# EAGLE library part TB6612FNG (library robots)
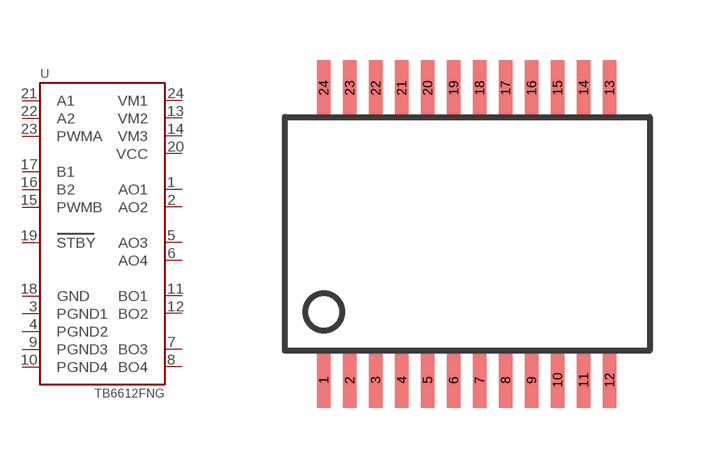
[diagram p7: symbol with the pads of SSOP24; footprint SSOP24]

Designator prefix -

## TB6612FNG  [SSOP24]
1  AO1
2  AO2
3  PGND1
4  PGND2
5  AO3
6  AO4
7  BO3
8  BO4
9  PGND3
10  PGND4
11  BO1
12  BO2
13  VM2
14  VM3
15  PWMB
16  B2
17  B1
18  GND
19  STBY
20  VCC
21  A1
22  A2
23  PWMA
24  VM1

## Footprint SSOP24 (pad centres in mm)
smd 0.348 x 1.397: 1 -3.575,-3.656; 2 -2.925,-3.656; 3 -2.275,-3.656; 4 -1.625,-3.656; 5 -0.975,-3.656; 6 -0.325,-3.656; 7 0.325,-3.656; 8 0.975,-3.656; 9 1.625,-3.656; 10 2.275,-3.656; 11 2.925,-3.656; 12 3.575,-3.656; 13 3.575,3.656; 14 2.925,3.656; 15 2.275,3.656; 16 1.625,3.656; 17 0.975,3.656; 18 0.325,3.656; 19 -0.325,3.656; 20 -0.975,3.656; 21 -1.625,3.656; 22 -2.275,3.656; 23 -2.925,3.656; 24 -3.575,3.656